# Altium footprint library Nanjar's Connectors Library.PcbLib: 70 footprints (part 2 of 5)
Each footprint in its own frame and in the unit in brackets; x right, y up, seen from the top. Pads: shape width x height; smd on the part's side, far side on the other; paste and mask are expansions set on the pad; w line width, h text height; cw(c..) or ccw(c..) is an arc to the next point about the centre after c.
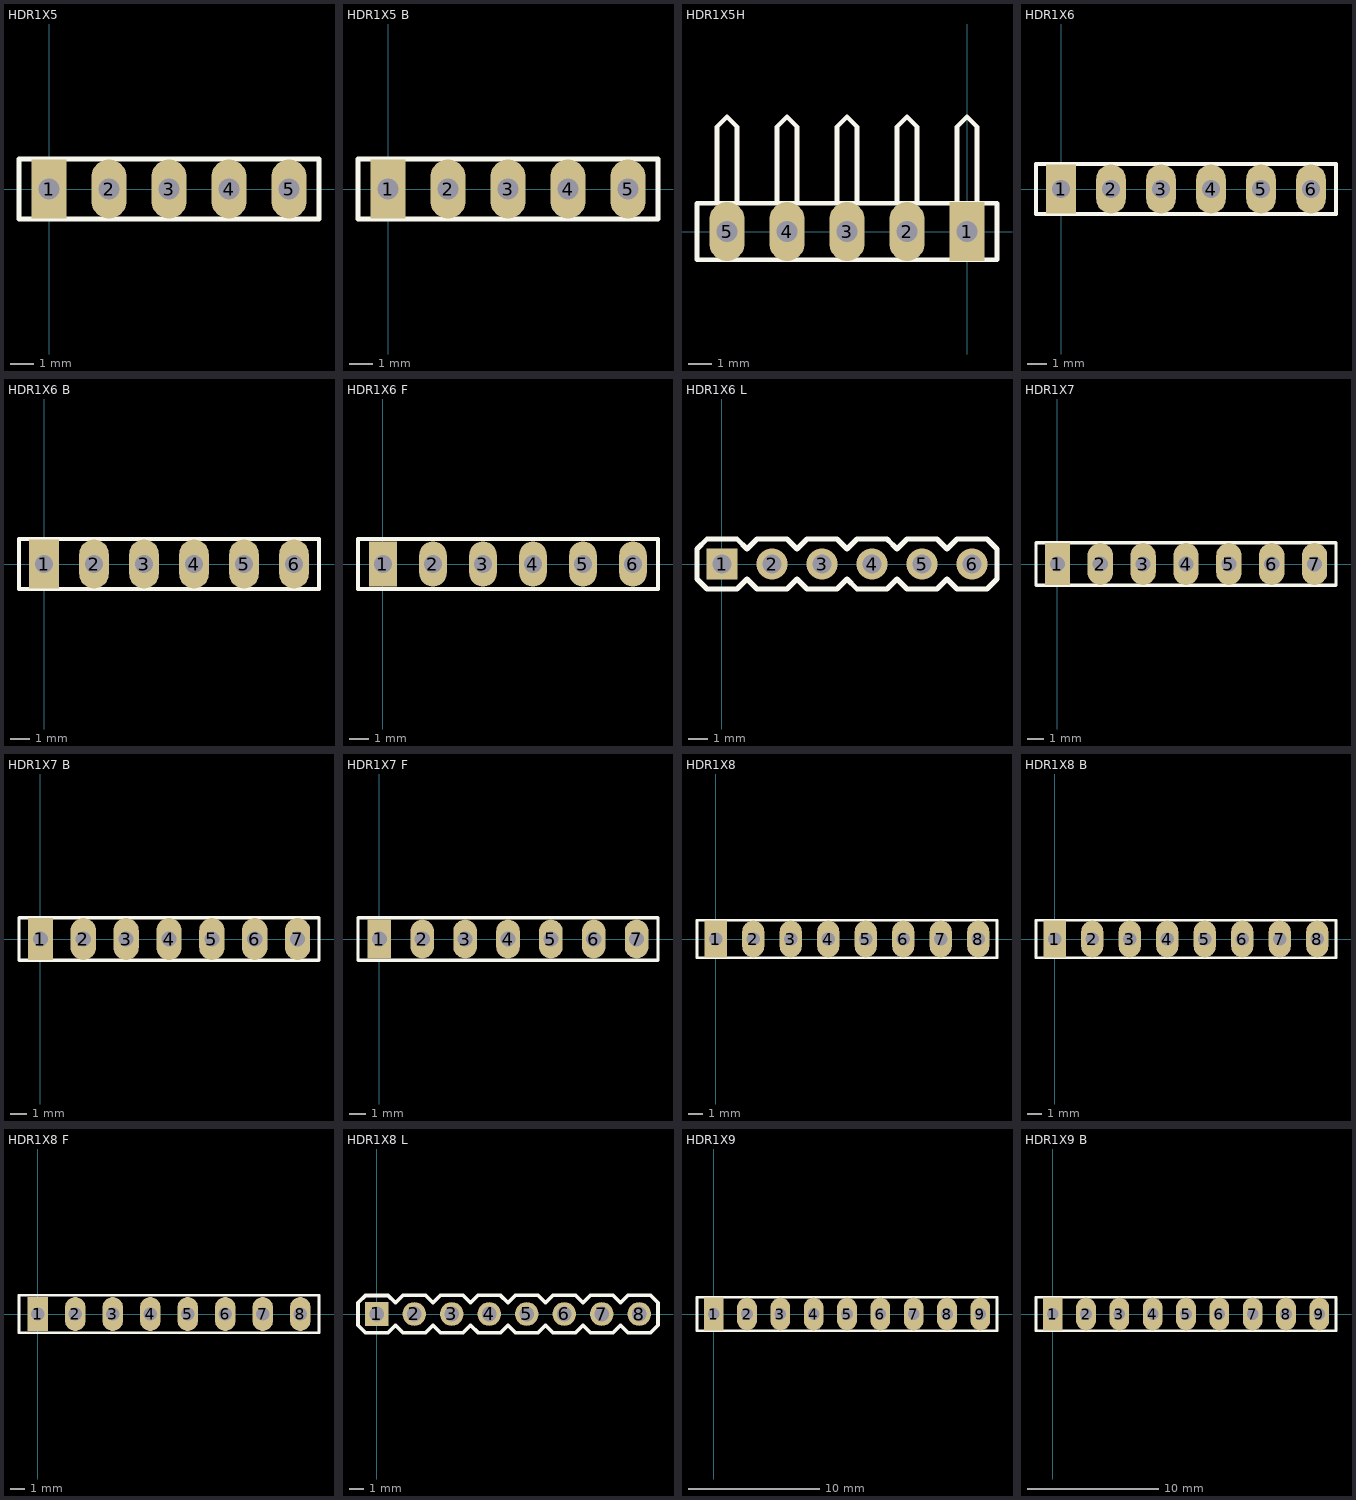
[diagram p1: the footprints below, top view; thin cyan lines are the x and y axes]

## HDR1X5 [mm] "Connector; Header; 6 Position"
height 1.4
pads (5):
  rect 1.5x2.5 hole 0.9: 1(0,0)
  oval 1.5x2.5 hole 0.9: 2(2.54,0) 3(5.08,0) 4(7.62,0) 5(10.16,0)
Top Overlay:
  lines w0.2: 11.425,1.27 -1.27,1.27 -1.27,-1.27 11.43,-1.27 11.43,1.27
3D body "1P.step": height 8.54, standoff -2.46, extent 1.27,-1.27 3.81,1.27
3D body "1P.step": height 8.54, standoff -2.46, extent -1.27,-1.27 1.27,1.27
3D body "1P.step": height 8.54, standoff -2.46, extent 6.35,-1.27 8.89,1.27
3D body "1P.step": height 8.54, standoff -2.46, extent 3.81,-1.27 6.35,1.27
3D body "1P.step": height 8.54, standoff -2.46, extent 8.89,-1.27 11.43,1.27

## HDR1X5 B [mm] "Connector; Header; 6 Position"
height 1.4
pads (5):
  rect 1.5x2.5 hole 0.9: 1(0,0)
  oval 1.5x2.5 hole 0.9: 2(2.54,0) 3(5.08,0) 4(7.62,0) 5(10.16,0)
Top Overlay:
  lines w0.2: 11.425,1.27 -1.27,1.27 -1.27,-1.27 11.43,-1.27 11.43,1.27
3D body "1P.step": height 0.65, standoff -10.35, extent 8.89,-1.27 11.43,1.27
3D body "1P.step": height 0.65, standoff -10.35, extent 6.35,-1.27 8.89,1.27
3D body "1P.step": height 0.65, standoff -10.35, extent 3.81,-1.27 6.35,1.27
3D body "1P.step": height 0.65, standoff -10.35, extent 1.27,-1.27 3.81,1.27
3D body "1P.step": height 0.65, standoff -10.35, extent -1.27,-1.27 1.27,1.27

## HDR1X5H [mm] "Connector; Header; 3 Position; Right Angle"
height 2.032
pads (5):
  rect 1.5x2.5 hole 0.9: 1(0,0)
  oval 1.5x2.5 hole 0.9: 2(-2.54,0) 3(-5.08,0) 4(-7.62,0) 5(-10.16,0)
Top Overlay:
  lines w0.2: -10.583,1.2 -10.583,4.427 -10.16,4.85 -9.737,4.427 -9.737,1.2 ; -8.043,1.2 -8.043,4.427 -7.62,4.85 -7.197,4.427 -7.197,1.2 ; -5.503,1.2 -5.503,4.427 -5.08,4.85 -4.657,4.427 -4.657,1.2 ; -2.963,1.2 -2.963,4.427 -2.54,4.85 -2.117,4.427 -2.117,1.2 ; -0.423,1.2 -0.423,4.427 0,4.85 0.423,4.427 0.423,1.2 ; -11.43,-1.2 -3.81,-1.2 1.27,-1.2 1.27,1.2 -3.81,1.2 -11.43,1.2 -11.43,-1.2
3D body "Pin Header 1x1 TH Angle Pitch 2.54mm.step": height 4.44, standoff -1.68, extent -11.438,-1.271 -8.893,5.019
3D body "Pin Header 1x1 TH Angle Pitch 2.54mm.step": height 4.44, standoff -1.68, extent -8.898,-1.271 -6.353,5.019
3D body "Pin Header 1x1 TH Angle Pitch 2.54mm.step": height 4.44, standoff -1.68, extent -6.358,-1.271 -3.813,5.019
3D body "Pin Header 1x1 TH Angle Pitch 2.54mm.step": height 4.42, standoff -1.7, extent -1.275,-1.27 1.271,5.02
3D body "Pin Header 1x1 TH Angle Pitch 2.54mm.step": height 4.42, standoff -1.7, extent -3.815,-1.27 -1.269,5.02

## HDR1X6 [mm] "Connector; Header; 6 Position"
height 1.4
pads (6):
  rect 1.5x2.5 hole 0.9: 1(0,0)
  oval 1.5x2.5 hole 0.9: 2(2.54,0) 3(5.08,0) 4(7.62,0) 5(10.16,0) 6(12.7,0)
Top Overlay:
  lines w0.2: -1.27,-1.27 -1.27,1.27 13.97,1.27 13.97,-1.27 -1.27,-1.27
3D body "1P.step": height 8.54, standoff -2.46, extent 8.89,-1.27 11.43,1.27
3D body "1P.step": height 8.54, standoff -2.46, extent 11.43,-1.27 13.97,1.27
3D body "1P.step": height 8.54, standoff -2.46, extent 3.81,-1.27 6.35,1.27
3D body "1P.step": height 8.54, standoff -2.46, extent 6.35,-1.27 8.89,1.27
3D body "1P.step": height 8.54, standoff -2.46, extent -1.27,-1.27 1.27,1.27
3D body "1P.step": height 8.54, standoff -2.46, extent 1.27,-1.27 3.81,1.27

## HDR1X6 B [mm] "Connector; Header; 6 Position"
height 1.4
pads (6):
  rect 1.5x2.5 hole 0.9: 1(0,0)
  oval 1.5x2.5 hole 0.9: 2(2.54,0) 3(5.08,0) 4(7.62,0) 5(10.16,0) 6(12.7,0)
Top Overlay:
  lines w0.2: -1.27,-1.27 -1.27,1.27 13.97,1.27 13.97,-1.27 -1.27,-1.27
3D body "1P.step": height 0.65, standoff -10.35, extent 6.35,-1.27 8.89,1.27
3D body "1P.step": height 0.65, standoff -10.35, extent 3.81,-1.27 6.35,1.27
3D body "1P.step": height 0.65, standoff -10.35, extent 1.27,-1.27 3.81,1.27
3D body "1P.step": height 0.65, standoff -10.35, extent -1.27,-1.27 1.27,1.27
3D body "1P.step": height 0.65, standoff -10.35, extent 11.43,-1.27 13.97,1.27
3D body "1P.step": height 0.65, standoff -10.35, extent 8.89,-1.27 11.43,1.27

## HDR1X6 F [mm]
pads (6):
  rect 1.4x2.3 hole 0.9: 1(0,0)
  oval 1.4x2.3 hole 0.9: 2(2.54,0) 3(5.08,0) 4(7.62,0) 5(10.16,0) 6(12.7,0)
Top Overlay:
  lines w0.2: -1.27,-1.27 13.97,-1.27 13.97,1.27 -1.27,1.27 -1.27,-1.27
3D body "Header Female 2p.step": height 8.5, standoff -2.09, extent 8.89,-1.27 13.97,1.27
3D body "Header Female 2p.step": height 8.5, standoff -2.09, extent 3.81,-1.27 8.89,1.27
3D body "Header Female 2p.step": height 8.5, standoff -2.09, extent -1.27,-1.27 3.81,1.27

## HDR1X6 L [mm] "Connector; Header; 30 Position"
pads (6):
  rect 1.6x1.6 hole 0.99: 1(0,0)
  round 1.6 hole 0.99: 2(2.54,0) 3(5.08,0) 4(7.62,0) 5(10.16,0) 6(12.7,0)
Top Overlay:
  lines w0.254: 6.868,-1.27 7.62,-1.27 8.382,-1.27 8.89,-0.762 9.398,-1.27 10.922,-1.27 11.43,-0.762 11.938,-1.27 13.462,-1.27 13.97,-0.762 13.97,0.762 13.462,1.27 11.938,1.27 11.43,0.762 10.922,1.27 9.398,1.27 8.89,0.762 8.392,1.26 ; 8.487,1.165 8.382,1.27 6.858,1.27 6.35,0.762 5.842,1.27 4.318,1.27 3.81,0.762 3.302,1.27 1.778,1.27 1.27,0.762 0.772,1.26 ; 0.762,1.26 0.772,1.26 ; 0.762,1.26 0.772,1.26 ; 0.762,1.26 0.01,1.26 -0.772,1.26 -1.27,0.762 -1.27,-0.762 -0.762,-1.27 0,-1.27 0.762,-1.27 1.27,-0.762 1.778,-1.27 3.302,-1.27 3.81,-0.762 4.318,-1.27 5.842,-1.27 6.35,-0.762 6.848,-1.26 ; 6.848,-1.26 6.858,-1.26 6.848,-1.26
3D body: height 2.5, standoff 0, extent -1.27,-1.27 1.27,1.27
3D body: height 8.5, standoff -7, extent -0.35,-0.35 0.35,0.35
3D body: height 2.5, standoff 0, extent 3.81,-1.27 6.35,1.27
3D body: height 2.5, standoff 0, extent 6.35,-1.27 8.89,1.27
3D body: height 2.5, standoff 0, extent 11.43,-1.27 13.97,1.27
3D body: height 2.5, standoff 0, extent 8.89,-1.27 11.43,1.27
3D body: height 2.5, standoff 0, extent 1.27,-1.27 3.81,1.27
3D body: height 8.5, standoff -7, extent 2.19,-0.35 2.89,0.35
3D body: height 8.5, standoff -7, extent 4.73,-0.35 5.43,0.35
3D body: height 8.5, standoff -7, extent 7.27,-0.35 7.97,0.35
3D body: height 8.5, standoff -7, extent 9.81,-0.35 10.51,0.35
3D body: height 8.5, standoff -7, extent 12.35,-0.35 13.05,0.35

## HDR1X7 [mm] "Connector; Header; 6 Position"
height 1.4
pads (7):
  rect 1.5x2.5 hole 0.9: 1(0,0)
  oval 1.5x2.5 hole 0.9: 2(2.54,0) 3(5.08,0) 4(7.62,0) 5(10.16,0) 6(12.7,0) 7(15.24,0)
Top Overlay:
  lines w0.2: -1.27,-1.27 -1.27,1.27 16.51,1.27 16.51,-1.27 -1.27,-1.27
3D body "1P.step": height 8.54, standoff -2.46, extent 1.27,-1.27 3.81,1.27
3D body "1P.step": height 8.54, standoff -2.46, extent -1.27,-1.27 1.27,1.27
3D body "1P.step": height 8.54, standoff -2.46, extent 6.35,-1.27 8.89,1.27
3D body "1P.step": height 8.54, standoff -2.46, extent 3.81,-1.27 6.35,1.27
3D body "1P.step": height 8.54, standoff -2.46, extent 11.43,-1.27 13.97,1.27
3D body "1P.step": height 8.54, standoff -2.46, extent 8.89,-1.27 11.43,1.27
3D body "1P.step": height 8.54, standoff -2.46, extent 13.97,-1.27 16.51,1.27

## HDR1X7 B [mm]
pads (7):
  rect 1.5x2.5 hole 0.9: 1(0,0)
  oval 1.5x2.5 hole 0.9: 2(2.54,0) 3(5.08,0) 4(7.62,0) 5(10.16,0) 6(12.7,0) 7(15.24,0)
Top Overlay:
  lines w0.2: -1.27,-1.27 -1.27,1.27 16.51,1.27 16.51,-1.27 -1.27,-1.27
3D body "1P.step": height 0.65, standoff -10.35, extent 6.35,-1.27 8.89,1.27
3D body "1P.step": height 0.65, standoff -10.35, extent 3.81,-1.27 6.35,1.27
3D body "1P.step": height 0.65, standoff -10.35, extent 1.27,-1.27 3.81,1.27
3D body "1P.step": height 0.65, standoff -10.35, extent -1.27,-1.27 1.27,1.27
3D body "1P.step": height 0.65, standoff -10.35, extent 13.97,-1.27 16.51,1.27
3D body "1P.step": height 0.65, standoff -10.35, extent 11.43,-1.27 13.97,1.27
3D body "1P.step": height 0.65, standoff -10.35, extent 8.89,-1.27 11.43,1.27

## HDR1X7 F [mm]
pads (7):
  rect 1.4x2.3 hole 0.9: 1(0,0)
  oval 1.4x2.3 hole 0.9: 2(2.54,0) 3(5.08,0) 4(7.62,0) 5(10.16,0) 6(12.7,0) 7(15.24,0)
Top Overlay:
  lines w0.2: -1.27,-1.27 -1.27,1.27 16.51,1.27 16.51,-1.27 -1.27,-1.27
3D body "Header Female 2p.step": height 8.5, standoff -2.09, extent -1.27,-1.27 3.81,1.27
3D body "Header Female 2p.step": height 8.5, standoff -2.09, extent 3.81,-1.27 8.89,1.27
3D body "Header Female 2p.step": height 8.5, standoff -2.09, extent 8.89,-1.27 13.97,1.27
3D body "Header Female 1p.step": height 8.5, standoff -2.09, extent 13.97,-1.27 16.51,1.27

## HDR1X8 [mm] "Connector; Header; 6 Position"
height 1.4
pads (8):
  rect 1.5x2.5 hole 0.9: 1(0,0)
  oval 1.5x2.5 hole 0.9: 2(2.54,0) 3(5.08,0) 4(7.62,0) 5(10.16,0) 6(12.7,0) 7(15.24,0) 8(17.78,0)
Top Overlay:
  lines w0.2: -1.27,-1.27 -1.27,1.27 19.05,1.27 19.05,-1.27 -1.27,-1.27
3D body "1P.step": height 8.54, standoff -2.46, extent 11.43,-1.27 13.97,1.27
3D body "1P.step": height 8.54, standoff -2.46, extent 8.89,-1.27 11.43,1.27
3D body "1P.step": height 8.54, standoff -2.46, extent 16.51,-1.27 19.05,1.27
3D body "1P.step": height 8.54, standoff -2.46, extent 13.97,-1.27 16.51,1.27
3D body "1P.step": height 8.54, standoff -2.46, extent 1.27,-1.27 3.81,1.27
3D body "1P.step": height 8.54, standoff -2.46, extent -1.27,-1.27 1.27,1.27
3D body "1P.step": height 8.54, standoff -2.46, extent 6.35,-1.27 8.89,1.27
3D body "1P.step": height 8.54, standoff -2.46, extent 3.81,-1.27 6.35,1.27

## HDR1X8 B [mm] "Connector; Header; 8 Position"
height 1.4
pads (8):
  rect 1.5x2.5 hole 0.9: 1(0,0)
  oval 1.5x2.5 hole 0.9: 2(2.54,0) 3(5.08,0) 4(7.62,0) 5(10.16,0) 6(12.7,0) 7(15.24,0) 8(17.78,0)
Top Overlay:
  lines w0.2: -1.27,-1.27 19.05,-1.27 19.05,1.27 -1.27,1.27 -1.27,-1.27
3D body "1P.step": height 0.65, standoff -10.35, extent 8.89,-1.27 11.43,1.27
3D body "1P.step": height 0.65, standoff -10.35, extent 11.43,-1.27 13.97,1.27
3D body "1P.step": height 0.65, standoff -10.35, extent 13.97,-1.27 16.51,1.27
3D body "1P.step": height 0.65, standoff -10.35, extent 16.51,-1.27 19.05,1.27
3D body "1P.step": height 0.65, standoff -10.35, extent -1.27,-1.27 1.27,1.27
3D body "1P.step": height 0.65, standoff -10.35, extent 1.27,-1.27 3.81,1.27
3D body "1P.step": height 0.65, standoff -10.35, extent 3.81,-1.27 6.35,1.27
3D body "1P.step": height 0.65, standoff -10.35, extent 6.35,-1.27 8.89,1.27

## HDR1X8 F [mm]
pads (8):
  rect 1.4x2.3 hole 0.9: 1(0,0)
  oval 1.4x2.3 hole 0.9: 2(2.54,0) 3(5.08,0) 4(7.62,0) 5(10.16,0) 6(12.7,0) 7(15.24,0) 8(17.78,0)
Top Overlay:
  lines w0.2: -1.27,-1.27 -1.27,1.27 19.05,1.27 19.05,-1.27 -1.27,-1.27
3D body "Header Female 2p.step": height 8.5, standoff -2.09, extent -1.27,-1.27 3.81,1.27
3D body "Header Female 2p.step": height 8.5, standoff -2.09, extent 3.81,-1.27 8.89,1.27
3D body "Header Female 2p.step": height 8.5, standoff -2.09, extent 8.89,-1.27 13.97,1.27
3D body "Header Female 2p.step": height 8.5, standoff -2.09, extent 13.97,-1.27 19.05,1.27

## HDR1X8 L [mm] "Connector; Header; 30 Position"
pads (8):
  rect 1.6x1.6 hole 0.99: 1(0,0)
  round 1.6 hole 0.99: 2(2.54,0) 3(5.08,0) 4(7.62,0) 5(10.16,0) 6(12.7,0) 7(15.24,0) 8(17.78,0)
Top Overlay:
  lines w0.254: 6.868,-1.27 7.62,-1.27 8.382,-1.27 8.89,-0.762 9.398,-1.27 10.922,-1.27 11.43,-0.762 11.938,-1.27 13.462,-1.27 13.97,-0.762 14.478,-1.27 16.002,-1.27 16.51,-0.762 17.018,-1.27 18.542,-1.27 19.05,-0.762 19.05,0.762 18.542,1.27 17.018,1.27 16.51,0.762 16.002,1.27 14.478,1.27 13.97,0.762 13.462,1.27 11.938,1.27 11.43,0.762 10.922,1.27 9.398,1.27 8.89,0.762 8.392,1.26 ; 8.487,1.165 8.382,1.27 6.858,1.27 6.35,0.762 5.842,1.27 4.318,1.27 3.81,0.762 3.302,1.27 1.778,1.27 1.27,0.762 0.772,1.26 ; 0.762,1.26 0.772,1.26 ; 0.762,1.26 0.772,1.26 ; 0.762,1.26 0.01,1.26 -0.772,1.26 -1.27,0.762 -1.27,-0.762 -0.762,-1.27 0,-1.27 0.762,-1.27 1.27,-0.762 1.778,-1.27 3.302,-1.27 3.81,-0.762 4.318,-1.27 5.842,-1.27 6.35,-0.762 6.848,-1.26 ; 6.848,-1.26 6.858,-1.26 6.848,-1.26
3D body: height 8.5, standoff -7, extent 17.43,-0.35 18.13,0.35
3D body: height 8.5, standoff -7, extent 14.89,-0.35 15.59,0.35
3D body: height 2.5, standoff 0, extent 13.97,-1.27 16.51,1.27
3D body: height 2.5, standoff 0, extent 16.51,-1.27 19.05,1.27
3D body: height 2.5, standoff 0, extent -1.27,-1.27 1.27,1.27
3D body: height 8.5, standoff -7, extent -0.35,-0.35 0.35,0.35
3D body: height 2.5, standoff 0, extent 3.81,-1.27 6.35,1.27
3D body: height 2.5, standoff 0, extent 6.35,-1.27 8.89,1.27
3D body: height 2.5, standoff 0, extent 11.43,-1.27 13.97,1.27
3D body: height 2.5, standoff 0, extent 8.89,-1.27 11.43,1.27
3D body: height 2.5, standoff 0, extent 1.27,-1.27 3.81,1.27
3D body: height 8.5, standoff -7, extent 2.19,-0.35 2.89,0.35
3D body: height 8.5, standoff -7, extent 4.73,-0.35 5.43,0.35
3D body: height 8.5, standoff -7, extent 7.27,-0.35 7.97,0.35
3D body: height 8.5, standoff -7, extent 9.81,-0.35 10.51,0.35
3D body: height 8.5, standoff -7, extent 12.35,-0.35 13.05,0.35

## HDR1X9 [mm] "Connector; Header; 6 Position"
height 1.4
pads (9):
  rect 1.5x2.5 hole 0.9: 1(0,0)
  oval 1.5x2.5 hole 0.9: 2(2.54,0) 3(5.08,0) 4(7.62,0) 5(10.16,0) 6(12.7,0) 7(15.24,0) 8(17.78,0) 9(20.32,0)
Top Overlay:
  lines w0.2: -1.27,-1.27 21.59,-1.27 21.59,1.27 -1.27,1.27 -1.27,-1.27
3D body "1P.step": height 8.54, standoff -2.46, extent 3.81,-1.27 6.35,1.27
3D body "1P.step": height 8.54, standoff -2.46, extent 6.35,-1.27 8.89,1.27
3D body "1P.step": height 8.54, standoff -2.46, extent -1.27,-1.27 1.27,1.27
3D body "1P.step": height 8.54, standoff -2.46, extent 1.27,-1.27 3.81,1.27
3D body "1P.step": height 8.54, standoff -2.46, extent 13.97,-1.27 16.51,1.27
3D body "1P.step": height 8.54, standoff -2.46, extent 16.51,-1.27 19.05,1.27
3D body "1P.step": height 8.54, standoff -2.46, extent 8.89,-1.27 11.43,1.27
3D body "1P.step": height 8.54, standoff -2.46, extent 11.43,-1.27 13.97,1.27
3D body "1P.step": height 8.54, standoff -2.46, extent 19.05,-1.27 21.59,1.27

## HDR1X9 B [mm]
pads (9):
  rect 1.5x2.5 hole 0.9: 1(0,0)
  oval 1.5x2.5 hole 0.9: 2(2.54,0) 3(5.08,0) 4(7.62,0) 5(10.16,0) 6(12.7,0) 7(15.24,0) 8(17.78,0) 9(20.32,0)
Top Overlay:
  lines w0.2: -1.27,-1.27 21.59,-1.27 21.59,1.27 -1.27,1.27 -1.27,-1.27
3D body "1P.step": height 0.65, standoff -10.35, extent 6.35,-1.27 8.89,1.27
3D body "1P.step": height 0.65, standoff -10.35, extent 3.81,-1.27 6.35,1.27
3D body "1P.step": height 0.65, standoff -10.35, extent 1.27,-1.27 3.81,1.27
3D body "1P.step": height 0.65, standoff -10.35, extent -1.27,-1.27 1.27,1.27
3D body "1P.step": height 0.65, standoff -10.35, extent 16.51,-1.27 19.05,1.27
3D body "1P.step": height 0.65, standoff -10.35, extent 13.97,-1.27 16.51,1.27
3D body "1P.step": height 0.65, standoff -10.35, extent 11.43,-1.27 13.97,1.27
3D body "1P.step": height 0.65, standoff -10.35, extent 8.89,-1.27 11.43,1.27
3D body "1P.step": height 0.65, standoff -10.35, extent 19.05,-1.27 21.59,1.27